# Altium footprint library SO-8.PcbLib: 3 footprints
Each footprint in its own frame and in the unit in brackets; x right, y up, seen from the top. Pads: shape width x height; smd on the part's side, far side on the other; paste and mask are expansions set on the pad; w line width, h text height; cw(c..) or ccw(c..) is an arc to the next point about the centre after c.
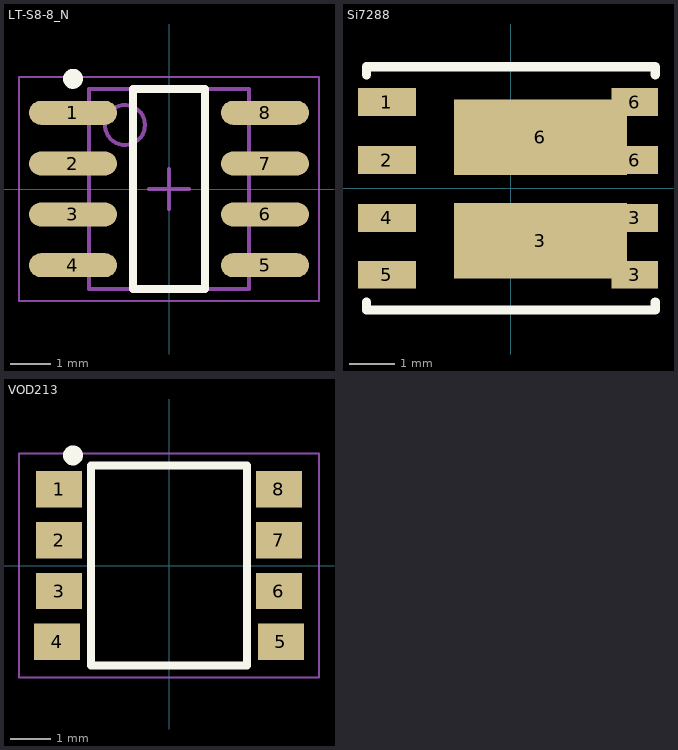
[diagram p0: the footprints below, top view; thin cyan lines are the x and y axes]

## LT-S8-8_N [mm] "SOIC, 8-Leads, Body 4.9x3.9mm, Pitch 1.27mm, IPC Medium Density"
pads (8):
  oval 2.2x0.6 smd: 1(-2.4,1.905) 2(-2.4,0.635) 3(-2.4,-0.635) 4(-2.4,-1.905) 5(2.4,-1.905) 6(2.4,-0.635) 7(2.4,0.635) 8(2.4,1.905)
Top Overlay:
  circle w0.25: c-2.4,2.755 r0.125
  lines w0.2: -0.9,-2.5 -0.9,2.5 0.9,2.5 0.9,-2.5 -0.9,-2.5
Mechanical 13:
  circle w0.1: c-1.1,1.6 r0.5
  lines w0.1: -2,-2.5 -2,2.5 2,2.5 2,-2.5 -2,-2.5
Mechanical 15:
  lines w0.05: -3.75,-2.8 -3.75,2.8 3.75,2.8 3.75,-2.8 -3.75,-2.8
  lines w0.1: -0.5,0 0.5,0 ; 0,-0.5 0,0.5
3D body: height 0.1, standoff 0, extent -2,-2.5 2,2.5

## Si7288 [mm] "Dual N Mosfet"
pads (10):
  rect 1.27x0.61 smd: 1(-2.725,1.9) 2(-2.725,0.625) 4(-2.725,-0.65) 5(-2.725,-1.9)
  rect 3.81x1.65 smd paste-4: 3(0.65,-1.15) 6(0.65,1.125)
  rect 1.02x0.61 smd: 3(2.725,-1.9) 3(2.725,-0.65) 6(2.725,1.9)
  rect 1.02x0.61 smd paste+0: 6(2.725,0.625)
Top Overlay:
  lines w0.2: -3.175,-2.5 -3.175,-2.675 3.175,-2.675 3.175,-2.5 ; -3.175,2.5 -3.175,2.675 3.175,2.675 3.175,2.5
Top Paste:
  region: 0.8,0.575 0.8,1.675 0.2,1.675 0.2,0.575
  region: 1.8,0.575 1.8,1.675 1.2,1.675 1.2,0.575
  region: -0.2,0.575 -0.2,1.675 -0.8,1.675 -0.8,0.575
  region: -0.2,-1.7 -0.2,-0.6 -0.8,-0.6 -0.8,-1.7
  region: 1.8,-1.7 1.8,-0.6 1.2,-0.6 1.2,-1.7
  region: 0.8,-1.7 0.8,-0.6 0.2,-0.6 0.2,-1.7
3D body: height 1.04, standoff 0, extent -3.075,-2.575 3.075,2.575

## VOD213 [mm]
pads (8):
  rect 1.14x0.91 smd: 1(-2.75,1.905) 2(-2.75,0.635) 3(-2.75,-0.635) 4(-2.8,-1.905) 5(2.8,-1.905) 6(2.75,-0.635) 7(2.75,0.635) 8(2.75,1.905)
Top Overlay:
  circle w0.25: c-2.4,2.755 r0.125
  lines w0.2: -1.95,-2.5 -1.95,2.5 1.95,2.5 1.95,-2.5 0.9,-2.5 -0.9,-2.5 -1.95,-2.5
Mechanical 13:
  lines w0.1: -2,-2.5 -2,2.5 2,2.5 2,-2.5 -2,-2.5
Mechanical 15:
  lines w0.05: -3.75,-2.8 -3.75,2.8 3.75,2.8 3.75,-2.8 -3.75,-2.8
3D body: height 3.18, standoff 0, extent -2,-2.5 2,2.5